# Altium footprint library Connector_Wire.PcbLib: 290 footprints (part 19 of 19)
Each footprint in its own frame and in the unit in brackets; x right, y up, seen from the top. Pads: shape width x height; smd on the part's side, far side on the other; paste and mask are expansions set on the pad; w line width, h text height; cw(c..) or ccw(c..) is an arc to the next point about the centre after c.
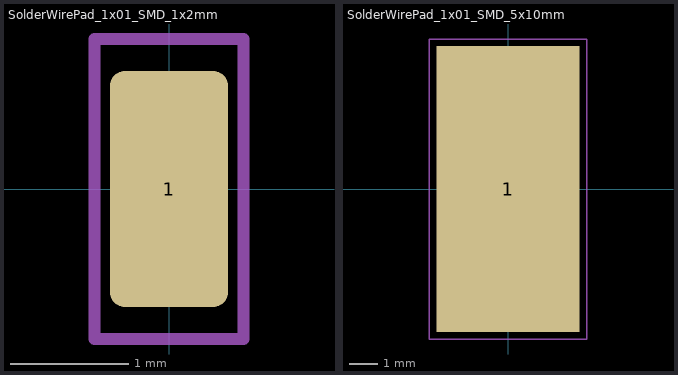
[diagram p18: the footprints below, top view; thin cyan lines are the x and y axes]

## SolderWirePad_1x01_SMD_1x2mm [mm]
pads (1):
  rrect25% 1x2 smd: 1(0,0)
F.CrtYd:
  lines w0.05: -0.63,-1.27 0.63,-1.27 0.63,1.27 -0.63,1.27 -0.63,-1.27
F.Fab:
  lines w0.1: -0.63,-1.27 -0.63,1.27 0.63,1.27 0.63,-1.27 -0.63,-1.27
  text "'.Designator'" at -4.047,-0.84 h1

## SolderWirePad_1x01_SMD_5x10mm [mm]
pads (1):
  rect 5x10 smd: 1(0,0)
F.CrtYd:
  lines w0.05: -2.75,-5.25 -2.75,5.25 2.75,5.25 2.75,-5.25 -2.75,-5.25
F.Fab:
  text "'.Designator'" at -4.047,-0.84 h1